# Altium footprint library MJ54&78_Main_V1.3.PcbLib: 53 footprints (part 3 of 4)
Each footprint in its own frame and in the unit in brackets; x right, y up, seen from the top. Pads: shape width x height; smd on the part's side, far side on the other; paste and mask are expansions set on the pad; w line width, h text height; cw(c..) or ccw(c..) is an arc to the next point about the centre after c.
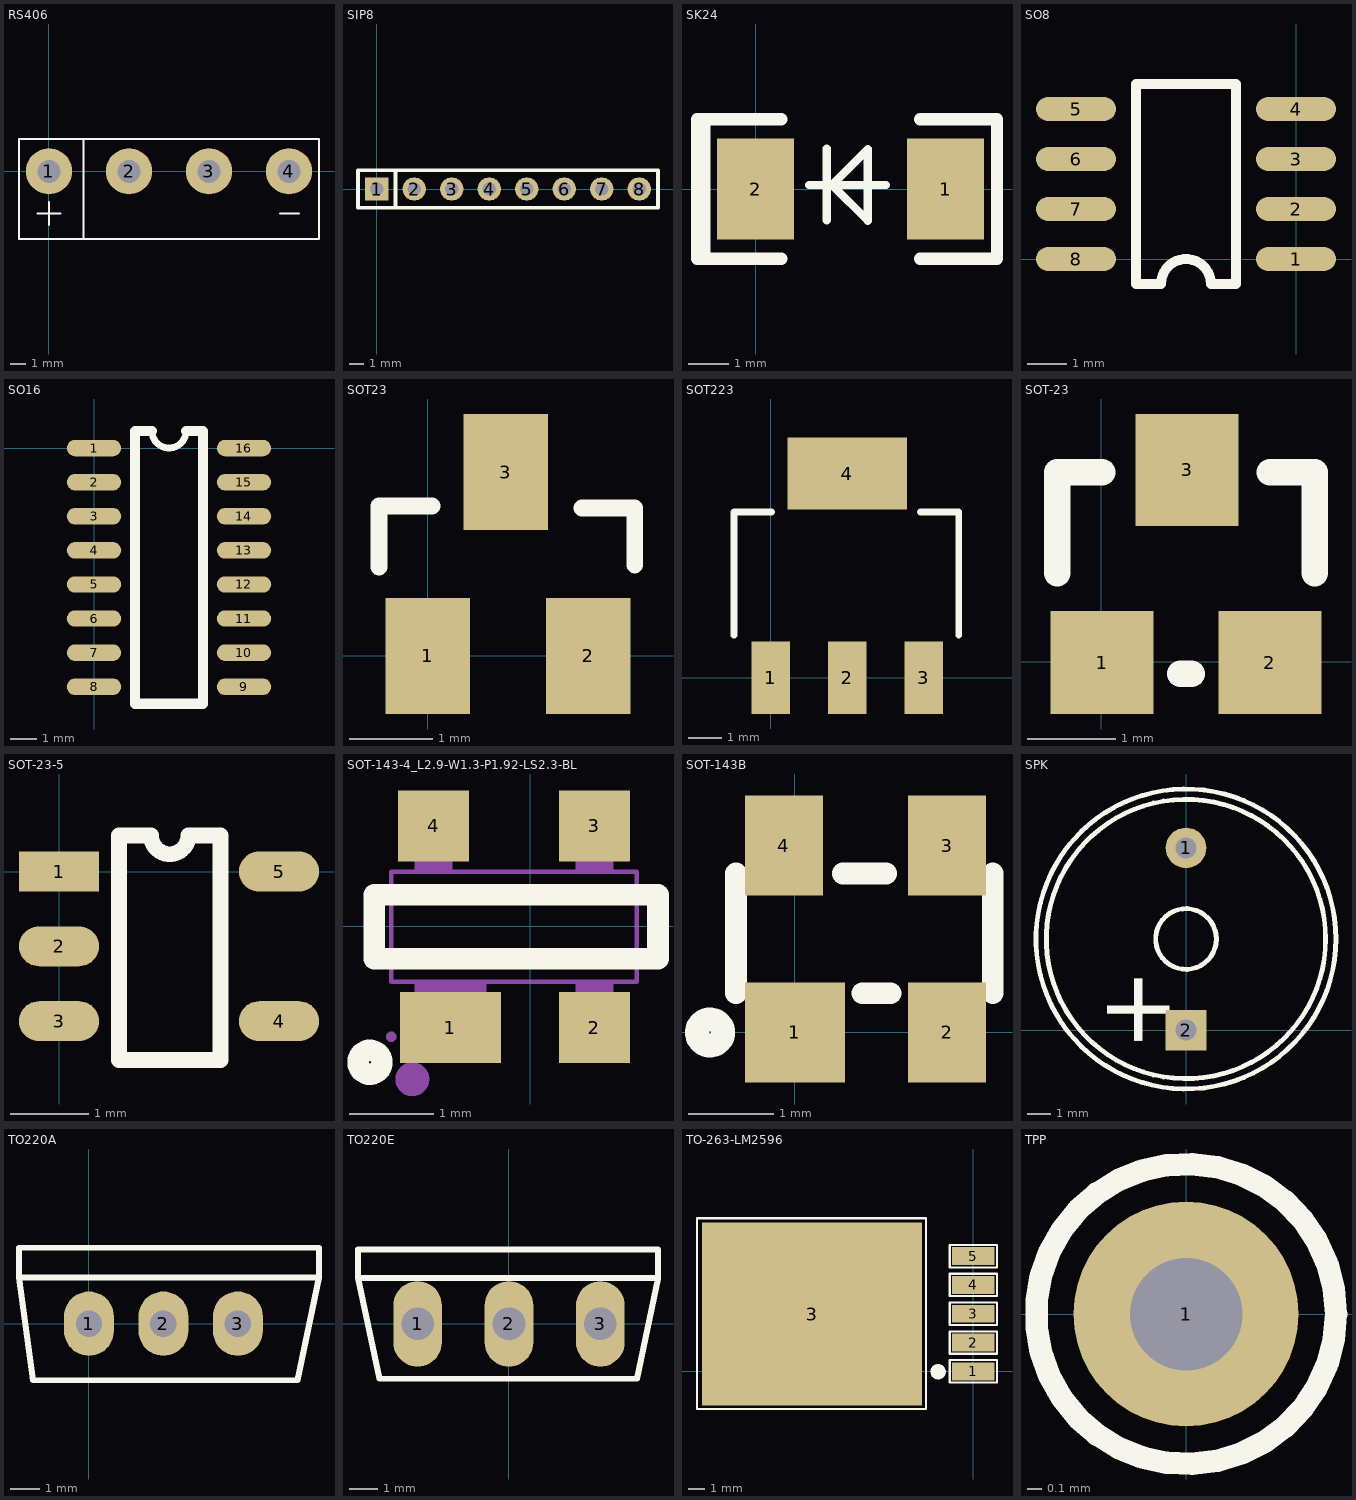
[diagram p2: the footprints below, top view; thin cyan lines are the x and y axes]

## RS406 [mm]
pads (4):
  round 3 hole 1.5: 1(0,0) 2(5.2,0) 3(10.4,0) 4(15.6,0)
Top Overlay:
  lines w0.127: -0.75,-2.75 0.75,-2.75 ; 0,-3.5 0,-2 ; 2.25,-4.4 2.25,2.1 ; 15,-2.75 16.25,-2.75 ; -1.95,-4.4 -1.95,2.1 17.55,2.1 17.55,-4.4 -1.95,-4.4

## SIP8 [mil]
pads (8):
  rect 62x62 hole 35: 1(0,0)
  round 62 hole 35: 2(100,0) 3(200,0) 4(300,0) 5(400,0) 6(500,0) 7(600,0) 8(700,0)
Top Overlay:
  lines w10: 50,-50 50,50 ; -50,-50 -50,50 750,50 750,-50 -50,-50

## SK24 [mm]
pads (2):
  rect 1.9x2.5 smd: 1(4.699,0) 2(0,0)
Top Overlay:
  lines w0.2: 1.911,0.078 1.911,0.14 1.925,0.14
  lines w0.203: 1.321,0.102 3.226,0.102 ; 1.758,-0.774 1.758,1 ; 1.911,0.078 2.774,-0.785 2.774,0.989 1.925,0.14
  lines w0.305: 0.635,-1.727 -1.27,-1.727 ; 0.635,1.727 -1.27,1.727 ; 4.064,-1.727 5.969,-1.727 5.969,1.727 4.064,1.727 ; -1.27,-1.727 -1.448,-1.727 -1.448,1.727 -1.27,1.727 ; -1.27,-1.727 -1.27,1.727

## SO8 [mil]
pads (8):
  oval 80x24 smd: 1(0,0) 2(0,50) 3(0,100) 4(0,150) 5(-220,150) 6(-220,100) 7(-220,50) 8(-220,0)
Top Overlay:
  lines w10: -160,-25 -135,-25 cw(c-110,-25) -85,-25 -60,-25 -60,175 -160,175 -160,-25

## SO16 [mil]
pads (16):
  oval 80x24 smd: 1(0,0) 2(0,-50) 3(0,-100) 4(0,-150) 5(0,-200) 6(0,-250) 7(0,-300) 8(0,-350) 9(220,-350) 10(220,-300) 11(220,-250) 12(220,-200) 13(220,-150) 14(220,-100) 15(220,-50) 16(220,0)
Top Overlay:
  lines w10: 85,25 ccw(c110,25) 135,25
  lines w15: 85,25 60,25 60,-375 160,-375 160,25 135,25

## SOT23 [mil]
pads (3):
  rect 40x55 smd: 1(0,0) 2(76,0) 3(37,87)
Top Overlay:
  lines w8: -23,42 -23,71 2,71 ; 73,70 97,70 ; 98,43 98,70

## SOT223 [mil]
pads (4):
  rect 45x85 smd: 1(0,0) 2(90,0) 3(180,0)
  rect 140x85 smd: 4(90,240)
Top Overlay:
  lines w8: -43,50 -43,195 1,195 ; 176,195 221,195 221,50

## SOT-23 [mil]
pads (3):
  rect 46x46 smd: 1(0.24,-0.44) 2(75.24,-0.44)
  rect 46x50 smd: 3(38.24,85.56)
Top Overlay:
  lines w12: -19.76,39.56 -19.76,84.56 0.24,84.56 ; 35.24,-5.44 40.24,-5.44 ; 75.24,84.56 95.24,84.56 95.24,39.56

## SOT-23-5 [mil]
pads (5):
  rect 40x20 smd: 1(0,0)
  oval 40x20 smd: 2(0,-37.4) 3(0,-74.8) 4(110,-74.8) 5(110,0)
Top Overlay:
  lines w7.87: 30,18 30,-94.2 80.7,-94.2 80.7,18 ; 46,18 ccw(c55.35,18) 64.7,18
  lines w8: 30,18 46,18 ; 64.7,18 80.7,18

## SOT-143-4_L2.9-W1.3-P1.92-LS2.3-BL [mil]
pads (4):
  rect 47x33 smd paste+0 mask+2: 1(-37.03,-47.1)
  rect 33x33 smd paste+0 mask+2: 2(29.9,-47.1) 3(29.9,46.71) 4(-44.9,46.71)
Top Overlay:
  circle w10: c-74.43,-63.19 r5.57
  lines w10: -72.46,-15.15 59.43,-15.15 59.43,14.77 -72.46,14.77 -72.46,-15.15
Mechanical 6:
  circle w7.87: c-54.74,-71.06 r3.94
Mechanical 15:
  region: -53.57,-51.37 -53.57,-39.56 -20.5,-39.56 -20.5,-51.37
  region: -53.57,-39.95 -53.57,-25.39 -20.5,-25.39 -20.5,-39.95
  region: 21.24,-51.37 21.24,-39.56 38.56,-39.56 38.56,-51.37
  region: 21.24,-39.95 21.24,-25.39 38.56,-25.39 38.56,-39.95
  region: 21.24,39.18 21.24,50.99 38.56,50.99 38.56,39.18
  region: 21.24,25.01 21.24,39.58 38.56,39.58 38.56,25.01
  region: -53.56,39.18 -53.56,50.99 -36.24,50.99 -36.24,39.18
  region: -53.56,25.01 -53.56,39.58 -36.24,39.58 -36.24,25.01
  region: -62.23,-51.37 -62.23,-50.39 -63.61,-49.01 -65.57,-49.01 -66.95,-50.39 -66.95,-51.37 -66.95,-52.35 -65.57,-53.73 -63.61,-53.73 -62.23,-52.35 -62.23,-51.37
  lines w2: -64.59,-25.78 -64.59,25.4 49.59,25.4 49.59,-25.78 -64.59,-25.78

## SOT-143B [mil]
pads (4):
  rect 46x46 smd: 1(0,0)
  rect 36x46 smd: 2(70,0) 3(70,86) 4(-5,86)
Top Overlay:
  circle w11: c-39,0 r6
  lines w10: -27.11,18 -27.11,73.12 ; 22,73.12 42,73.12 ; 31,18 44,18 ; 91,18 91,73.12

## SPK [mm]
pads (2):
  round 1.7 hole 0.889: 1(0,7.62)
  rect 1.7x1.7 hole 0.889: 2(0,0)
Top Overlay:
  circle w0.203: c0,3.81 r5.842
  circle w0.203: c0,3.81 r1.27
  circle w0.203: c0,3.81 r6.274
  text "+" at -0.686,-0.914 h3.05

## TO220A [mm]
pads (3):
  oval 1.702x2.2 hole 0.9: 1(0,0) 2(2.54,0) 3(5.08,0)
Top Overlay:
  lines w0.203: -2.388,1.575 7.595,1.575 7.849,1.575 ; -2.388,1.575 -2.388,2.591 7.849,2.591 7.849,1.575 ; -2.388,1.575 -1.905,-1.93 7.112,-1.93 7.849,1.575

## TO220E [mil]
pads (3):
  oval 67x118 hole 45: 1(-125.76,-0.44) 2(0.24,-0.44) 3(126.24,-0.44)
Top Overlay:
  lines w8: -197.23,102.03 205.77,102.03 205.77,62.03 176.77,-75.97 -178.23,-75.97 -207.95,63.02 ; -192.21,102.03 -207.59,102.03 -207.95,102.39 -207.95,63.02 ; 204.78,63.02 -207.95,63.02

## TO-263-LM2596 [mm]
pads (6):
  rect 2.5x1.06 smd: 1(0,0) 2(0,1.702) 3(0,3.404) 4(0,5.105) 5(0,6.807)
  rect 13x10.8 smd: 3(-9.53,3.388)
Top Overlay:
  lines w0.127: -2.159,-0.025 -1.928,-0.025 -1.905,-0.049 ; -2.108,-0.254 -2.108,-0.076 -2.057,-0.025 -2.057,0.229 ; 1.397,-0.66 -1.397,-0.66 -1.397,0.66 1.397,0.66 1.397,-0.635 ; 1.397,1.041 -1.397,1.041 -1.397,2.362 1.397,2.362 1.397,1.067 ; 1.397,2.743 -1.397,2.743 -1.397,4.064 1.397,4.064 1.397,2.769 ; 1.397,4.445 -1.397,4.445 -1.397,5.766 1.397,5.766 1.397,4.47 ; 1.397,6.147 -1.397,6.147 -1.397,7.468 1.397,7.468 1.397,6.172 ; -16.337,-2.225 -2.799,-2.225 -2.799,9.053 -16.337,9.053 -16.337,-2.225
  lines w0.254: -2.306,0.22 ccw(c-2.083,-0.025) -2.292,0.231 ; -1.905,-0.049 cw(c-2.083,-0.025) -1.903,-0.025

## TPP [mil]
pads (1):
  round 60 hole 30: 1(0,0)
Top Overlay:
  circle w6: c0,0 r40